# EAGLE library part TPS61030 (library 0_my_parts)
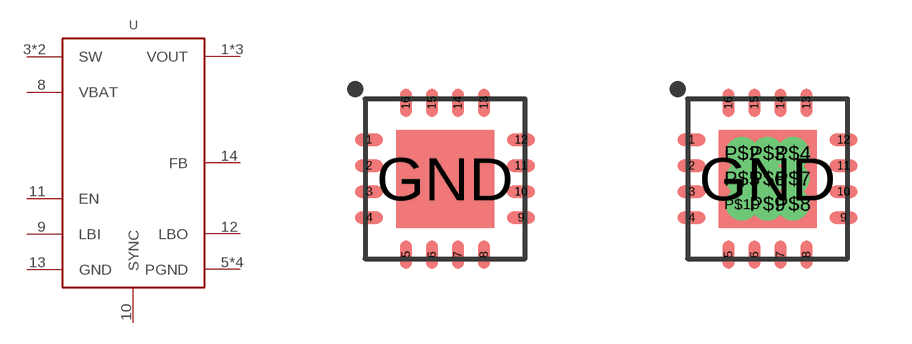
[diagram p3: symbol with the pads of RSA(S-PVQFN-N16); footprints RSA(S-PVQFN-N16), RSA(S-PVQFN-N16)_VIA]

Designator prefix U

## TPS61030NO_VIA  [RSA(S-PVQFN-N16)]
1  VOUT
3  SW
4  SW
5  PGND
6  PGND
7  PGND
8  VBAT
9  LBI
10  SYNC
11  EN
12  LBO
13  GND
14  FB
15  VOUT
16  VOUT
GND  PGND

## TPS61030VIA  [RSA(S-PVQFN-N16)_VIA]
1  VOUT
3  SW
4  SW
5  PGND
6  PGND
7  PGND
8  VBAT
9  LBI
10  SYNC
11  EN
12  LBO
13  GND
14  FB
15  VOUT
16  VOUT
GND  PGND
P$2  PGND
P$3  PGND
P$4  PGND
P$5  PGND
P$6  PGND
P$7  PGND
P$8  PGND
P$9  PGND
P$10  PGND

## Footprint RSA(S-PVQFN-N16) (pad centres in mm)
smd 0.7 x 0.3: 1 -1.9,0.975; 2 -1.9,0.325; 3 -1.9,-0.325; 4 -1.9,-0.975; 9 1.9,-0.975; 10 1.9,-0.325; 11 1.9,0.325; 12 1.9,0.975
smd 0.3 x 0.7: 5 -0.975,-1.9; 6 -0.325,-1.9; 7 0.325,-1.9; 8 0.975,-1.9; 13 0.975,1.9; 14 0.325,1.9; 15 -0.325,1.9; 16 -0.975,1.9
smd 2.45 x 2.45: GND 0,0

## Footprint RSA(S-PVQFN-N16)_VIA (pad centres in mm)
smd 0.7 x 0.3: 1 -1.9,0.975; 2 -1.9,0.325; 3 -1.9,-0.325; 4 -1.9,-0.975; 9 1.9,-0.975; 10 1.9,-0.325; 11 1.9,0.325; 12 1.9,0.975
smd 0.3 x 0.7: 5 -0.975,-1.9; 6 -0.325,-1.9; 7 0.325,-1.9; 8 0.975,-1.9; 13 0.975,1.9; 14 0.325,1.9; 15 -0.325,1.9; 16 -0.975,1.9
smd 2.45 x 2.45: GND 0,0
drill 0.3 pad 0.4: P$2 -0.635,0.635; P$3 0,0.635; P$4 0.635,0.635; P$5 -0.635,0; P$6 0,0; P$7 0.635,0; P$8 0.635,-0.635; P$9 0,-0.635; P$10 -0.635,-0.635